# EAGLE library part 74CBTLV3257 (library 74CB)
LV FET MUX/DEMUX
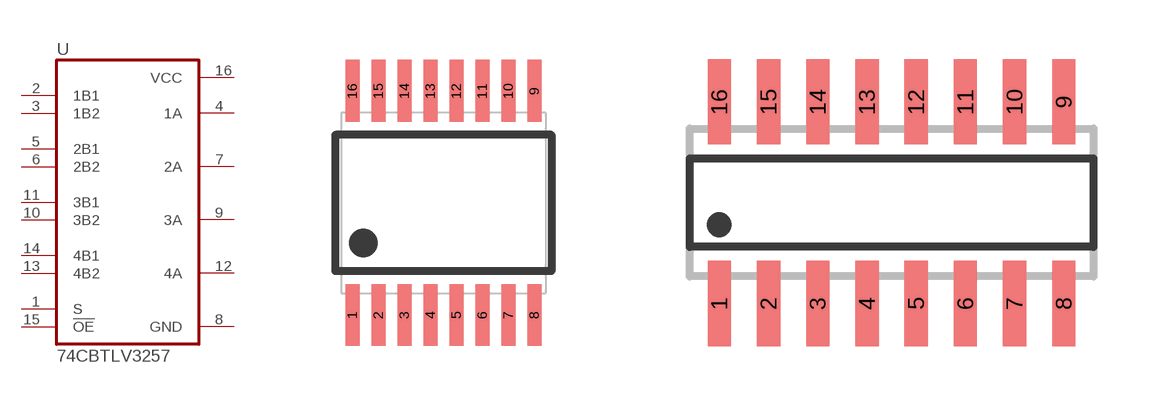
[diagram p1: symbol with the pads of TSSOP16; footprints TSSOP16, SO16]

Designator prefix U

## 74CBTLV3257PW  [TSSOP16]
1  S  in
2  1B1
3  1B2
4  1A
5  2B1
6  2B2
7  2A
8  GND  pwr
9  3A
10  3B2
11  3B1
12  4A
13  4B2
14  4B1
15  !OE!  in
16  VCC  pwr

## 74CBTLV3257D  [SO16]
Pads as for TSSOP16

## Footprint TSSOP16 (pad centres in mm)
16-TSSOP PW (R-PDSO-G16) Body (0.173", 4.40mm Width)
smd 0.35 x 1.55: 1 -2.275,-2.8; 2 -1.625,-2.8; 3 -0.975,-2.8; 4 -0.325,-2.8; 5 0.325,-2.8; 6 0.975,-2.8; 7 1.625,-2.8; 8 2.275,-2.8; 9 2.275,2.8; 10 1.625,2.8; 11 0.975,2.8; 12 0.325,2.8; 13 -0.325,2.8; 14 -0.975,2.8; 15 -1.625,2.8; 16 -2.275,2.8

## Footprint SO16 (pad centres in mm)
SMALL OUTLINE INTEGRATED CIRCUIT body 3.9 mm/JEDEC MS-012AC
smd 0.6 x 2.2: 1 -4.445,-2.6; 2 -3.175,-2.6; 3 -1.905,-2.6; 4 -0.635,-2.6; 5 0.635,-2.6; 6 1.905,-2.6; 7 3.175,-2.6; 8 4.445,-2.6; 9 4.445,2.6; 10 3.175,2.6; 11 1.905,2.6; 12 0.635,2.6; 13 -0.635,2.6; 14 -1.905,2.6; 15 -3.175,2.6; 16 -4.445,2.6